# Altium footprint library SMD_2520_Crystal_Oscilator.PcbLib: 1 footprints
Each footprint in its own frame and in the unit in brackets; x right, y up, seen from the top. Pads: shape width x height; smd on the part's side, far side on the other; paste and mask are expansions set on the pad; w line width, h text height; cw(c..) or ccw(c..) is an arc to the next point about the centre after c.
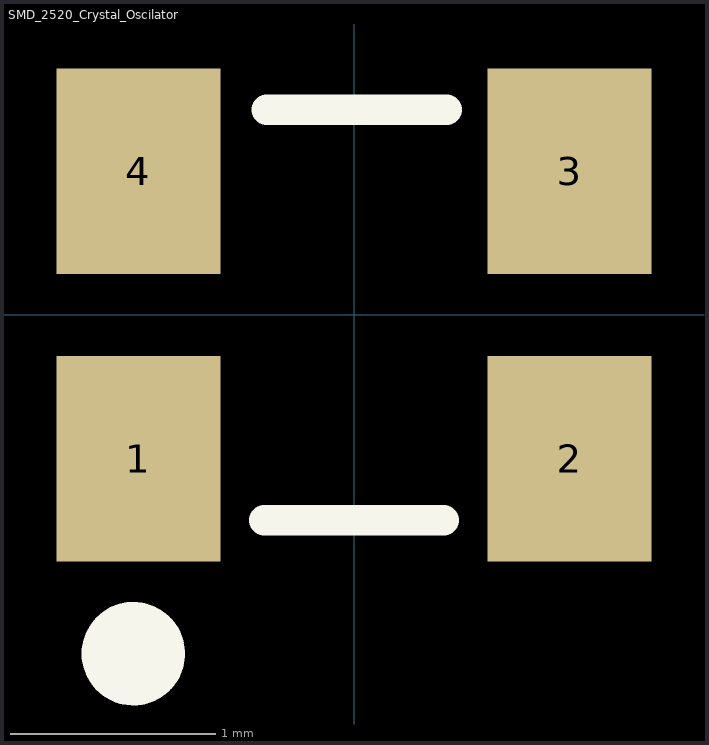
[diagram p0: the footprint, top view; thin cyan lines are the x and y axes]

## SMD_2520_Crystal_Oscilator [mm] "Crystal Oscillator 2.5x2.0mm"
height 1
pads (4):
  rect 0.8x1 smd: 1(-1.05,-0.7) 2(1.05,-0.7) 3(1.05,0.7) 4(-1.05,0.7)
Top Overlay:
  circle w0.254: c-1.075,-1.65 r0.125
  lines w0.15: -0.437,-1 0.437,-1 ; -0.425,1 0.45,1
3D body "SMD_2520_Crystal_Oscillator.STEP": height 0.8, standoff 0, extent -1.251,-1 1.251,1